# Altium integrated library Analog Devices Operational Amplifiers.IntLib: 2102 symbols (part 27 of 70)
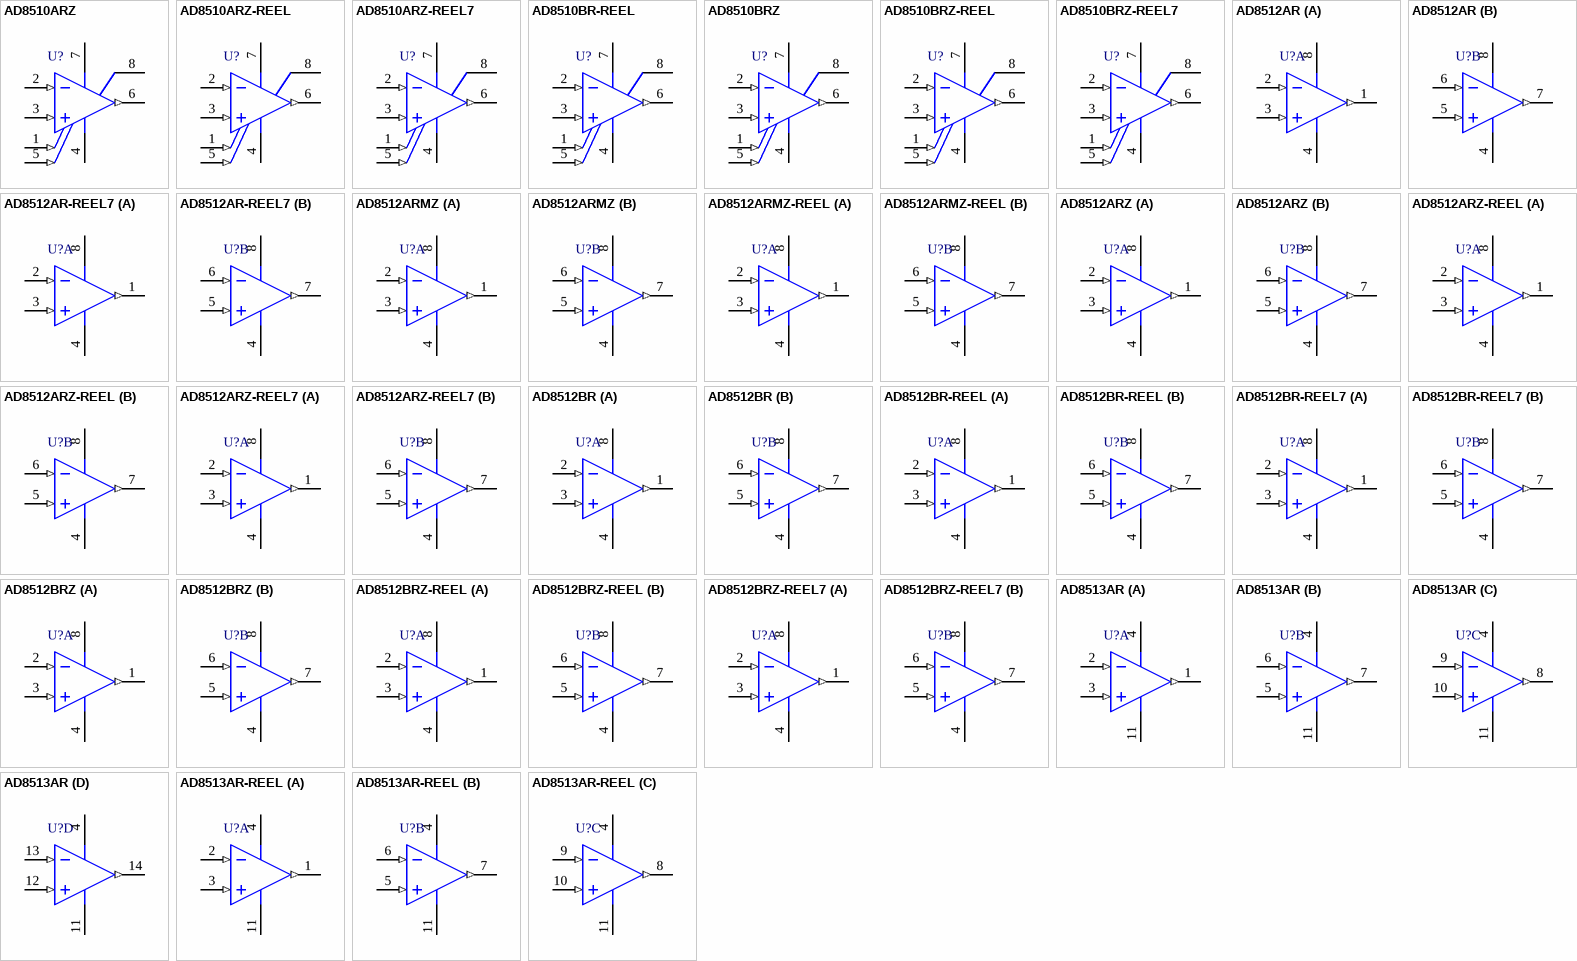
[diagram p140: symbols AD8510ARZ to AD8513AR-REEL]

## AD8512BRZ-REEL7
designator U?
Double Channel Low Offset Voltage Operational Amplifier, 8 MHz BW, 20 V/us SR, Industrial, 8-pin SOIC (R-8), Reel; Generic Part Number: AD8512; Manufacturer: Analog Devices; PartNumber: AD8512BRZ-REEL7; Amplifiers Per Package: 2; Input Bias Current: 21pA; Input Offset Voltage: 80uV; Iq/Amp: 2.5mA; Slew Rate: 20V/us; Small Signal Bandwidth: 8MHz; V Span Max: 36V; V Span Min: 9V; DatasheetVersion: Rev. I; PackageVersion: 060506-A; PackageReference: R-8; PackageDescription: 8-Pin Standard Small Outline Package, Body 3.9 x 4.9 mm, Pitch 1.27 mm; Supplier 1: Digi-Key; Supplier Part Number 1: AD8512BRZ-REEL7TR-ND; Supplier 2: Digi-Key; Supplier Part Number 2: AD8512BRZ-REEL7CT-ND; Supplier 3: Digi-Key; Supplier Part Number 3: AD8512BRZ-REEL7DKR-ND; Supplier 4: Newark; Supplier Part Number 4: 59K6779; Mounting Technology: Surface Mount; Code_JEDEC: MS-012-AA; ComponentLink1Description: Manufacturer URL; ComponentLink1URL: http://www.analog.com/en/index.html; ComponentLink2Description: Datasheet; ComponentLink2URL: http://www.analog.com/static/imported-files/data_sheets/AD8510_8512_8513.pdf; ComponentLink3Description: Package Specification; ComponentLink3URL: http://www.analog.com/static/imported-files/packages/PKG_PDF/SOIC_Narrow%20(R)/R_8.pdf; ComponentLink4Description: Reference Circuit; ComponentLink4URL: http://www.analog.com/en/all-operational-amplifiers-op-amps/operational-amplifiers-op-amps/ad8512/products/product.html#product-recommendations
footprint ADI-R-8_N (SOIC, 8-Leads, Body 4.9x3.9mm, Pitch 1.27mm, IPC Medium Density)
footprint ADI-R-8_L (SOIC, 8-Leads, Body 4.9x3.9mm, Pitch 1.27mm, IPC High Density)
footprint ADI-R-8_M (SOIC, 8-Leads, Body 4.9x3.9mm, Pitch 1.27mm, IPC Low Density)
pins on every part: 4 -V (power), 8 +V (power)
part A pins: 1 OUT A (out), 2 -IN A (in), 3 +IN A (in)
part B pins: 5 +IN B (in), 6 -IN B (in), 7 OUT B (out)

## AD8513AR
designator U?
Quad Channel Low Offset Voltage Operational Amplifier, 8 MHz BW, 20 V/us SR, Industrial, 14-pin SOIC (R-14), Tube; Generic Part Number: AD8513; Manufacturer: Analog Devices; PartNumber: AD8513AR; Amplifiers Per Package: 4; Input Bias Current: 25pA; Input Offset Voltage: 80uV; Iq/Amp: 2.5mA; Slew Rate: 20V/us; Small Signal Bandwidth: 8MHz; V Span Max: 36V; V Span Min: 9V; DatasheetVersion: Rev. I; PackageVersion: 060606-A; PackageReference: R-14; PackageDescription: 14-Pin Standard Small Outline Package, Body 8.65 x 3.9 mm, Pitch 1.27 mm; Supplier 1: Digi-Key; Supplier Part Number 1: AD8513AR-ND; Mounting Technology: Surface Mount; Code_JEDEC: MS-012-AB; ComponentLink1Description: Manufacturer URL; ComponentLink1URL: http://www.analog.com/en/index.html; ComponentLink2Description: Datasheet; ComponentLink2URL: http://www.analog.com/static/imported-files/data_sheets/AD8510_8512_8513.pdf; ComponentLink3Description: Package Specification; ComponentLink3URL: http://www.analog.com/static/imported-files/packages/PKG_PDF/SOIC_Narrow%20(R)/R_14.pdf
footprint ADI-R-14_N (SOIC, 14-Leads, Body 8.65x3.9mm, Pitch 1.27mm, IPC Medium Density)
footprint ADI-R-14_L (SOIC, 14-Leads, Body 8.65x3.9mm, Pitch 1.27mm, IPC High Density)
footprint ADI-R-14_M (SOIC, 14-Leads, Body 8.65x3.9mm, Pitch 1.27mm, IPC Low Density)
pins on every part: 4 +V (power), 11 -V (power)
part A pins: 1 OUT A (out), 2 -IN A (in), 3 +IN A (in)
part B pins: 5 +IN B (in), 6 -IN B (in), 7 OUT B (out)
part C pins: 8 OUT C (out), 9 -IN C (in), 10 +IN C (in)
part D pins: 12 +IN D (in), 13 -IN D (in), 14 OUT D (out)

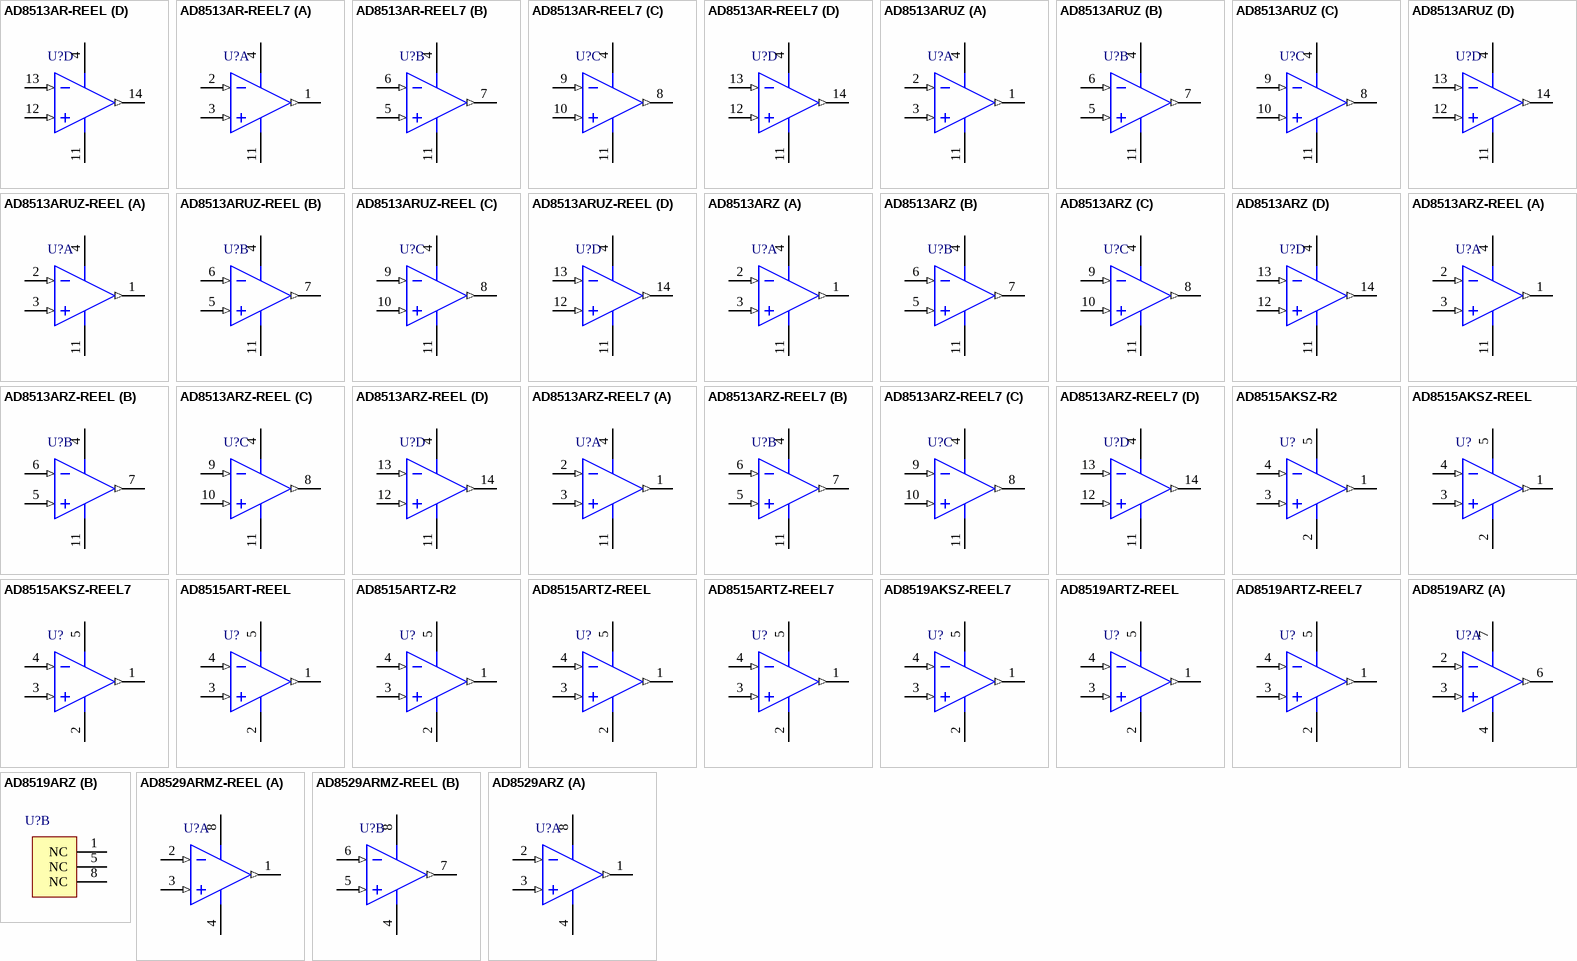
[diagram p39: symbols AD8513AR-REEL to AD8529ARZ]

## AD8513AR-REEL
designator U?
Quad Channel Low Offset Voltage Operational Amplifier, 8 MHz BW, 20 V/us SR, Industrial, 14-pin SOIC (R-14), Reel; Generic Part Number: AD8513; Manufacturer: Analog Devices; PartNumber: AD8513AR-REEL; Amplifiers Per Package: 4; Input Bias Current: 25pA; Input Offset Voltage: 80uV; Iq/Amp: 2.5mA; Slew Rate: 20V/us; Small Signal Bandwidth: 8MHz; V Span Max: 36V; V Span Min: 9V; DatasheetVersion: Rev. I; PackageVersion: 060606-A; PackageReference: R-14; PackageDescription: 14-Pin Standard Small Outline Package, Body 8.65 x 3.9 mm, Pitch 1.27 mm; Supplier 1: Digi-Key; Supplier Part Number 1: AD8513AR-REEL-ND; Supplier 2: Newark; Supplier Part Number 2: 88H0252; Mounting Technology: Surface Mount; Code_JEDEC: MS-012-AB; ComponentLink1Description: Manufacturer URL; ComponentLink1URL: http://www.analog.com/en/index.html; ComponentLink2Description: Datasheet; ComponentLink2URL: http://www.analog.com/static/imported-files/data_sheets/AD8510_8512_8513.pdf; ComponentLink3Description: Package Specification; ComponentLink3URL: http://www.analog.com/static/imported-files/packages/PKG_PDF/SOIC_Narrow%20(R)/R_14.pdf
footprint ADI-R-14_N (SOIC, 14-Leads, Body 8.65x3.9mm, Pitch 1.27mm, IPC Medium Density)
footprint ADI-R-14_L (SOIC, 14-Leads, Body 8.65x3.9mm, Pitch 1.27mm, IPC High Density)
footprint ADI-R-14_M (SOIC, 14-Leads, Body 8.65x3.9mm, Pitch 1.27mm, IPC Low Density)
pins on every part: 4 +V (power), 11 -V (power)
part A pins: 1 OUT A (out), 2 -IN A (in), 3 +IN A (in)
part B pins: 5 +IN B (in), 6 -IN B (in), 7 OUT B (out)
part C pins: 8 OUT C (out), 9 -IN C (in), 10 +IN C (in)
part D pins: 12 +IN D (in), 13 -IN D (in), 14 OUT D (out)

## AD8513AR-REEL7
designator U?
Quad Channel Low Offset Voltage Operational Amplifier, 8 MHz BW, 20 V/us SR, Industrial, 14-pin SOIC (R-14), Reel; Generic Part Number: AD8513; Manufacturer: Analog Devices; PartNumber: AD8513AR-REEL7; Amplifiers Per Package: 4; Input Bias Current: 25pA; Input Offset Voltage: 80uV; Iq/Amp: 2.5mA; Slew Rate: 20V/us; Small Signal Bandwidth: 8MHz; V Span Max: 36V; V Span Min: 9V; DatasheetVersion: Rev. I; PackageVersion: 060606-A; PackageReference: R-14; PackageDescription: 14-Pin Standard Small Outline Package, Body 8.65 x 3.9 mm, Pitch 1.27 mm; Supplier 1: Digi-Key; Supplier Part Number 1: AD8513AR-REEL7-ND; Supplier 2: Newark; Supplier Part Number 2: 88H0253; Mounting Technology: Surface Mount; Code_JEDEC: MS-012-AB; ComponentLink1Description: Manufacturer URL; ComponentLink1URL: http://www.analog.com/en/index.html; ComponentLink2Description: Datasheet; ComponentLink2URL: http://www.analog.com/static/imported-files/data_sheets/AD8510_8512_8513.pdf; ComponentLink3Description: Package Specification; ComponentLink3URL: http://www.analog.com/static/imported-files/packages/PKG_PDF/SOIC_Narrow%20(R)/R_14.pdf
footprint ADI-R-14_N (SOIC, 14-Leads, Body 8.65x3.9mm, Pitch 1.27mm, IPC Medium Density)
footprint ADI-R-14_L (SOIC, 14-Leads, Body 8.65x3.9mm, Pitch 1.27mm, IPC High Density)
footprint ADI-R-14_M (SOIC, 14-Leads, Body 8.65x3.9mm, Pitch 1.27mm, IPC Low Density)
pins on every part: 4 +V (power), 11 -V (power)
part A pins: 1 OUT A (out), 2 -IN A (in), 3 +IN A (in)
part B pins: 5 +IN B (in), 6 -IN B (in), 7 OUT B (out)
part C pins: 8 OUT C (out), 9 -IN C (in), 10 +IN C (in)
part D pins: 12 +IN D (in), 13 -IN D (in), 14 OUT D (out)

## AD8513ARUZ
designator U?
Quad Channel Low Offset Voltage Operational Amplifier, 8 MHz BW, 20 V/us SR, Industrial, 14-pin SOP (RU-14), Tube; Generic Part Number: AD8513; Manufacturer: Analog Devices; PartNumber: AD8513ARUZ; Amplifiers Per Package: 4; Input Bias Current: 25pA; Input Offset Voltage: 80uV; Iq/Amp: 2.5mA; Slew Rate: 20V/us; Small Signal Bandwidth: 8MHz; V Span Max: 36V; V Span Min: 9V; DatasheetVersion: Rev. I; PackageReference: RU-14; PackageDescription: 14-Pin Thin Shrink Small Outline Package, Body 5 x 4.4 mm, Pitch 0.65 mm; Supplier 1: Digi-Key; Supplier Part Number 1: AD8513ARUZ-ND; Supplier 2: Farnell; Supplier Part Number 2: 2192247; Supplier 3: Newark; Supplier Part Number 3: 59K6780; Mounting Technology: Surface Mount; Code_JEDEC: MO-153AB-1; ComponentLink1Description: Manufacturer URL; ComponentLink1URL: http://www.analog.com/en/index.html; ComponentLink2Description: Datasheet; ComponentLink2URL: http://www.analog.com/static/imported-files/data_sheets/AD8510_8512_8513.pdf; ComponentLink3Description: Package Specification; ComponentLink3URL: http://www.analog.com/static/imported-files/packages/36057385283879153717235186773RU14.pdf
footprint ADI-RU-14_N (SOP, 14-Leads, Body 5x4.4mm, Pitch 0.65mm, IPC Medium Density)
footprint ADI-RU-14_L (SOP, 14-Leads, Body 5x4.4mm, Pitch 0.65mm, IPC High Density)
footprint ADI-RU-14_M (SOP, 14-Leads, Body 5x4.4mm, Pitch 0.65mm, IPC Low Density)
pins on every part: 4 +V (power), 11 -V (power)
part A pins: 1 OUT A (out), 2 -IN A (in), 3 +IN A (in)
part B pins: 5 +IN B (in), 6 -IN B (in), 7 OUT B (out)
part C pins: 8 OUT C (out), 9 -IN C (in), 10 +IN C (in)
part D pins: 12 +IN D (in), 13 -IN D (in), 14 OUT D (out)

## AD8513ARUZ-REEL
designator U?
Quad Channel Low Offset Voltage Operational Amplifier, 8 MHz BW, 20 V/us SR, Industrial, 14-pin SOP (RU-14), Reel; Generic Part Number: AD8513; Manufacturer: Analog Devices; PartNumber: AD8513ARUZ-REEL; Amplifiers Per Package: 4; Input Bias Current: 25pA; Input Offset Voltage: 80uV; Iq/Amp: 2.5mA; Slew Rate: 20V/us; Small Signal Bandwidth: 8MHz; V Span Max: 36V; V Span Min: 9V; DatasheetVersion: Rev. I; PackageReference: RU-14; PackageDescription: 14-Pin Thin Shrink Small Outline Package, Body 5 x 4.4 mm, Pitch 0.65 mm; Supplier 1: Digi-Key; Supplier Part Number 1: AD8513ARUZ-REEL-ND; Mounting Technology: Surface Mount; Code_JEDEC: MO-153AB-1; ComponentLink1Description: Manufacturer URL; ComponentLink1URL: http://www.analog.com/en/index.html; ComponentLink2Description: Datasheet; ComponentLink2URL: http://www.analog.com/static/imported-files/data_sheets/AD8510_8512_8513.pdf; ComponentLink3Description: Package Specification; ComponentLink3URL: http://www.analog.com/static/imported-files/packages/36057385283879153717235186773RU14.pdf
footprint ADI-RU-14_N (SOP, 14-Leads, Body 5x4.4mm, Pitch 0.65mm, IPC Medium Density)
footprint ADI-RU-14_L (SOP, 14-Leads, Body 5x4.4mm, Pitch 0.65mm, IPC High Density)
footprint ADI-RU-14_M (SOP, 14-Leads, Body 5x4.4mm, Pitch 0.65mm, IPC Low Density)
pins on every part: 4 +V (power), 11 -V (power)
part A pins: 1 OUT A (out), 2 -IN A (in), 3 +IN A (in)
part B pins: 5 +IN B (in), 6 -IN B (in), 7 OUT B (out)
part C pins: 8 OUT C (out), 9 -IN C (in), 10 +IN C (in)
part D pins: 12 +IN D (in), 13 -IN D (in), 14 OUT D (out)

## AD8513ARZ
designator U?
Quad Channel Low Offset Voltage Operational Amplifier, 8 MHz BW, 20 V/us SR, Industrial, 14-pin SOIC (R-14), Tube; Generic Part Number: AD8513; Manufacturer: Analog Devices; PartNumber: AD8513ARZ; Amplifiers Per Package: 4; Input Bias Current: 25pA; Input Offset Voltage: 80uV; Iq/Amp: 2.5mA; Slew Rate: 20V/us; Small Signal Bandwidth: 8MHz; V Span Max: 36V; V Span Min: 9V; DatasheetVersion: Rev. I; PackageVersion: 060606-A; PackageReference: R-14; PackageDescription: 14-Pin Standard Small Outline Package, Body 8.65 x 3.9 mm, Pitch 1.27 mm; Supplier 1: Digi-Key; Supplier Part Number 1: AD8513ARZ-ND; Supplier 2: Farnell; Supplier Part Number 2: 8397970; Supplier 3: Newark; Supplier Part Number 3: 19M0959; Mounting Technology: Surface Mount; Code_JEDEC: MS-012-AB; ComponentLink1Description: Manufacturer URL; ComponentLink1URL: http://www.analog.com/en/index.html; ComponentLink2Description: Datasheet; ComponentLink2URL: http://www.analog.com/static/imported-files/data_sheets/AD8510_8512_8513.pdf; ComponentLink3Description: Package Specification; ComponentLink3URL: http://www.analog.com/static/imported-files/packages/PKG_PDF/SOIC_Narrow%20(R)/R_14.pdf
footprint ADI-R-14_N (SOIC, 14-Leads, Body 8.65x3.9mm, Pitch 1.27mm, IPC Medium Density)
footprint ADI-R-14_L (SOIC, 14-Leads, Body 8.65x3.9mm, Pitch 1.27mm, IPC High Density)
footprint ADI-R-14_M (SOIC, 14-Leads, Body 8.65x3.9mm, Pitch 1.27mm, IPC Low Density)
pins on every part: 4 +V (power), 11 -V (power)
part A pins: 1 OUT A (out), 2 -IN A (in), 3 +IN A (in)
part B pins: 5 +IN B (in), 6 -IN B (in), 7 OUT B (out)
part C pins: 8 OUT C (out), 9 -IN C (in), 10 +IN C (in)
part D pins: 12 +IN D (in), 13 -IN D (in), 14 OUT D (out)

## AD8513ARZ-REEL
designator U?
Quad Channel Low Offset Voltage Operational Amplifier, 8 MHz BW, 20 V/us SR, Industrial, 14-pin SOIC (R-14), Reel; Generic Part Number: AD8513; Manufacturer: Analog Devices; PartNumber: AD8513ARZ-REEL; Amplifiers Per Package: 4; Input Bias Current: 25pA; Input Offset Voltage: 80uV; Iq/Amp: 2.5mA; Slew Rate: 20V/us; Small Signal Bandwidth: 8MHz; V Span Max: 36V; V Span Min: 9V; DatasheetVersion: Rev. I; PackageVersion: 060606-A; PackageReference: R-14; PackageDescription: 14-Pin Standard Small Outline Package, Body 8.65 x 3.9 mm, Pitch 1.27 mm; Supplier 1: Digi-Key; Supplier Part Number 1: AD8513ARZ-REEL-ND; Supplier 2: Newark; Supplier Part Number 2: 59K6783; Mounting Technology: Surface Mount; Code_JEDEC: MS-012-AB; ComponentLink1Description: Manufacturer URL; ComponentLink1URL: http://www.analog.com/en/index.html; ComponentLink2Description: Datasheet; ComponentLink2URL: http://www.analog.com/static/imported-files/data_sheets/AD8510_8512_8513.pdf; ComponentLink3Description: Package Specification; ComponentLink3URL: http://www.analog.com/static/imported-files/packages/PKG_PDF/SOIC_Narrow%20(R)/R_14.pdf
footprint ADI-R-14_N (SOIC, 14-Leads, Body 8.65x3.9mm, Pitch 1.27mm, IPC Medium Density)
footprint ADI-R-14_L (SOIC, 14-Leads, Body 8.65x3.9mm, Pitch 1.27mm, IPC High Density)
footprint ADI-R-14_M (SOIC, 14-Leads, Body 8.65x3.9mm, Pitch 1.27mm, IPC Low Density)
pins on every part: 4 +V (power), 11 -V (power)
part A pins: 1 OUT A (out), 2 -IN A (in), 3 +IN A (in)
part B pins: 5 +IN B (in), 6 -IN B (in), 7 OUT B (out)
part C pins: 8 OUT C (out), 9 -IN C (in), 10 +IN C (in)
part D pins: 12 +IN D (in), 13 -IN D (in), 14 OUT D (out)

## AD8513ARZ-REEL7
designator U?
Quad Channel Low Offset Voltage Operational Amplifier, 8 MHz BW, 20 V/us SR, Industrial, 14-pin SOIC (R-14), Reel; Generic Part Number: AD8513; Manufacturer: Analog Devices; PartNumber: AD8513ARZ-REEL7; Amplifiers Per Package: 4; Input Bias Current: 25pA; Input Offset Voltage: 80uV; Iq/Amp: 2.5mA; Slew Rate: 20V/us; Small Signal Bandwidth: 8MHz; V Span Max: 36V; V Span Min: 9V; DatasheetVersion: Rev. I; PackageVersion: 060606-A; PackageReference: R-14; PackageDescription: 14-Pin Standard Small Outline Package, Body 8.65 x 3.9 mm, Pitch 1.27 mm; Supplier 1: Digi-Key; Supplier Part Number 1: AD8513ARZ-REEL7TR-ND; Supplier 2: Digi-Key; Supplier Part Number 2: AD8513ARZ-REEL7CT-ND; Supplier 3: Digi-Key; Supplier Part Number 3: AD8513ARZ-REEL7DKR-ND; Supplier 4: Newark; Supplier Part Number 4: 59K6784; Mounting Technology: Surface Mount; Code_JEDEC: MS-012-AB; ComponentLink1Description: Manufacturer URL; ComponentLink1URL: http://www.analog.com/en/index.html; ComponentLink2Description: Datasheet; ComponentLink2URL: http://www.analog.com/static/imported-files/data_sheets/AD8510_8512_8513.pdf; ComponentLink3Description: Package Specification; ComponentLink3URL: http://www.analog.com/static/imported-files/packages/PKG_PDF/SOIC_Narrow%20(R)/R_14.pdf
footprint ADI-R-14_N (SOIC, 14-Leads, Body 8.65x3.9mm, Pitch 1.27mm, IPC Medium Density)
footprint ADI-R-14_L (SOIC, 14-Leads, Body 8.65x3.9mm, Pitch 1.27mm, IPC High Density)
footprint ADI-R-14_M (SOIC, 14-Leads, Body 8.65x3.9mm, Pitch 1.27mm, IPC Low Density)
pins on every part: 4 +V (power), 11 -V (power)
part A pins: 1 OUT A (out), 2 -IN A (in), 3 +IN A (in)
part B pins: 5 +IN B (in), 6 -IN B (in), 7 OUT B (out)
part C pins: 8 OUT C (out), 9 -IN C (in), 10 +IN C (in)
part D pins: 12 +IN D (in), 13 -IN D (in), 14 OUT D (out)

## AD8515AKSZ-R2
designator U?
Single Channel RRIO Operational Amplifier, 5 MHz BW, 2.7 V/us SR, Industrial, 5-pin SOT23 (KS-5), Reel; Generic Part Number: AD8515; Manufacturer: Analog Devices; PartNumber: AD8515AKSZ-R2; Amplifiers Per Package: 1; Input Bias Current: 2pA; Input Offset Voltage: 1mV; Iq/Amp: 500uA; Small Signal Bandwidth: 5MHz; V Span Max: 6V; V Span Min: 1.8V; DatasheetVersion: Rev. D; PackageVersion: 072809-A; PackageReference: KS-5; PackageDescription: 5-Pin Thin Shrink Small Outline Transistor Package, Body 2 x 1.25 mm, Pitch 0.65 mm; Supplier 1: Digi-Key; Supplier Part Number 1: AD8515AKSZ-R2TR-ND; Supplier 2: Digi-Key; Supplier Part Number 2: AD8515AKSZ-R2CT-ND; Supplier 3: Digi-Key; Supplier Part Number 3: AD8515AKSZ-R2DKR-ND; Supplier 4: Farnell; Supplier Part Number 4: 2074883; Supplier 5: Newark; Supplier Part Number 5: 59K6787; Slew Rate: 2.7V/us; Mounting Technology: Surface Mount; Code_JEDEC: MO-203-AA; ComponentLink1Description: Manufacturer URL; ComponentLink1URL: http://www.analog.com/en/index.html; ComponentLink2Description: Datasheet; ComponentLink2URL: http://www.analog.com/static/imported-files/data_sheets/AD8515.pdf; ComponentLink3Description: Package Specification; ComponentLink3URL: http://www.analog.com/static/imported-files/packages/PKG_PDF/SC70(KS)/KS_5.pdf; ComponentLink4Description: Reference Circuit; ComponentLink4URL: http://www.analog.com/en/all-operational-amplifiers-op-amps/operational-amplifiers-op-amps/ad8515/products/product.html#product-recommendations
footprint ADI-KS-5_N (SOT23, 5-Leads, Body 2x1.25mm, Pitch 0.65mm, IPC Medium Density)
footprint ADI-KS-5_L (SOT23, 5-Leads, Body 2x1.25mm, Pitch 0.65mm, IPC High Density)
footprint ADI-KS-5_M (SOT23, 5-Leads, Body 2x1.25mm, Pitch 0.65mm, IPC Low Density)
pins: 1 OUT (out), 2 -V (power), 3 +IN (in), 4 -IN (in), 5 +V (power)

## AD8515AKSZ-REEL
designator U?
Single Channel RRIO Operational Amplifier, 5 MHz BW, 2.7 V/us SR, Industrial, 5-pin SOT23 (KS-5), Reel; Generic Part Number: AD8515; Manufacturer: Analog Devices; PartNumber: AD8515AKSZ-REEL; Amplifiers Per Package: 1; Input Bias Current: 2pA; Input Offset Voltage: 1mV; Iq/Amp: 500uA; Small Signal Bandwidth: 5MHz; V Span Max: 6V; V Span Min: 1.8V; DatasheetVersion: Rev. D; PackageVersion: 072809-A; PackageReference: KS-5; PackageDescription: 5-Pin Thin Shrink Small Outline Transistor Package, Body 2 x 1.25 mm, Pitch 0.65 mm; Supplier 1: Digi-Key; Supplier Part Number 1: AD8515AKSZ-REEL-ND; Supplier 2: Newark; Supplier Part Number 2: 59K6785; Slew Rate: 2.7V/us; Mounting Technology: Surface Mount; Code_JEDEC: MO-203-AA; ComponentLink1Description: Manufacturer URL; ComponentLink1URL: http://www.analog.com/en/index.html; ComponentLink2Description: Datasheet; ComponentLink2URL: http://www.analog.com/static/imported-files/data_sheets/AD8515.pdf; ComponentLink3Description: Package Specification; ComponentLink3URL: http://www.analog.com/static/imported-files/packages/PKG_PDF/SC70(KS)/KS_5.pdf; ComponentLink4Description: Reference Circuit; ComponentLink4URL: http://www.analog.com/en/all-operational-amplifiers-op-amps/operational-amplifiers-op-amps/ad8515/products/product.html#product-recommendations
footprint ADI-KS-5_N (SOT23, 5-Leads, Body 2x1.25mm, Pitch 0.65mm, IPC Medium Density)
footprint ADI-KS-5_L (SOT23, 5-Leads, Body 2x1.25mm, Pitch 0.65mm, IPC High Density)
footprint ADI-KS-5_M (SOT23, 5-Leads, Body 2x1.25mm, Pitch 0.65mm, IPC Low Density)
pins: 1 OUT (out), 2 -V (power), 3 +IN (in), 4 -IN (in), 5 +V (power)

## AD8515AKSZ-REEL7
designator U?
Single Channel RRIO Operational Amplifier, 5 MHz BW, 2.7 V/us SR, Industrial, 5-pin SOT23 (KS-5), Reel; Generic Part Number: AD8515; Manufacturer: Analog Devices; PartNumber: AD8515AKSZ-REEL7; Amplifiers Per Package: 1; Input Bias Current: 2pA; Input Offset Voltage: 1mV; Iq/Amp: 500uA; Small Signal Bandwidth: 5MHz; V Span Max: 6V; V Span Min: 1.8V; DatasheetVersion: Rev. D; PackageVersion: 072809-A; PackageReference: KS-5; PackageDescription: 5-Pin Thin Shrink Small Outline Transistor Package, Body 2 x 1.25 mm, Pitch 0.65 mm; Supplier 1: Digi-Key; Supplier Part Number 1: AD8515AKSZ-REEL7TR-ND; Supplier 2: Digi-Key; Supplier Part Number 2: AD8515AKSZ-REEL7CT-ND; Supplier 3: Digi-Key; Supplier Part Number 3: AD8515AKSZ-REEL7DKR-ND; Supplier 4: Newark; Supplier Part Number 4: 59K6786; Slew Rate: 2.7V/us; Mounting Technology: Surface Mount; Code_JEDEC: MO-203-AA; ComponentLink1Description: Manufacturer URL; ComponentLink1URL: http://www.analog.com/en/index.html; ComponentLink2Description: Datasheet; ComponentLink2URL: http://www.analog.com/static/imported-files/data_sheets/AD8515.pdf; ComponentLink3Description: Package Specification; ComponentLink3URL: http://www.analog.com/static/imported-files/packages/PKG_PDF/SC70(KS)/KS_5.pdf; ComponentLink4Description: Reference Circuit; ComponentLink4URL: http://www.analog.com/en/all-operational-amplifiers-op-amps/operational-amplifiers-op-amps/ad8515/products/product.html#product-recommendations
footprint ADI-KS-5_N (SOT23, 5-Leads, Body 2x1.25mm, Pitch 0.65mm, IPC Medium Density)
footprint ADI-KS-5_L (SOT23, 5-Leads, Body 2x1.25mm, Pitch 0.65mm, IPC High Density)
footprint ADI-KS-5_M (SOT23, 5-Leads, Body 2x1.25mm, Pitch 0.65mm, IPC Low Density)
pins: 1 OUT (out), 2 -V (power), 3 +IN (in), 4 -IN (in), 5 +V (power)

## AD8515ART-REEL
designator U?
Single Channel RRIO Operational Amplifier, 5 MHz BW, 2.7 V/us SR, Industrial, 5-pin SOT23 (RJ-5), Reel; Generic Part Number: AD8515; Manufacturer: Analog Devices; PartNumber: AD8515ART-REEL; Amplifiers Per Package: 1; Input Bias Current: 2pA; Input Offset Voltage: 1mV; Iq/Amp: 500uA; Small Signal Bandwidth: 5MHz; V Span Max: 6V; V Span Min: 1.8V; DatasheetVersion: Rev. D; PackageVersion: 121608-A; PackageReference: RJ-5; PackageDescription: 5-Pin Small Outline Transistor Package, Body 2.9 x 1.6 mm, Pitch 0.95 mm; Supplier 1: Digi-Key; Supplier Part Number 1: AD8515ART-REEL-ND; Slew Rate: 2.7V/us; Mounting Technology: Surface Mount; Code_JEDEC: MO-178-AA; ComponentLink1Description: Manufacturer URL; ComponentLink1URL: http://www.analog.com/en/index.html; ComponentLink2Description: Datasheet; ComponentLink2URL: http://www.analog.com/static/imported-files/data_sheets/AD8515.pdf; ComponentLink3Description: Package Specification; ComponentLink3URL: http://www.analog.com/static/imported-files/packages/PKG_PDF/SOT-23(RJ)/RJ_5.pdf; ComponentLink4Description: Reference Circuit; ComponentLink4URL: http://www.analog.com/en/all-operational-amplifiers-op-amps/operational-amplifiers-op-amps/ad8515/products/product.html#product-recommendations
footprint ADI-RJ-5_N (SOT-23, 5-Leads, Body 2.9x1.6mm, Pitch 0.95mm, IPC Medium Density)
footprint ADI-RJ-5_L (SOT-23, 5-Leads, Body 2.9x1.6mm, Pitch 0.95mm, IPC High Density)
footprint ADI-RJ-5_M (SOT-23, 5-Leads, Body 2.9x1.6mm, Pitch 0.95mm, IPC Low Density)
pins: 1 OUT (out), 2 -V (power), 3 +IN (in), 4 -IN (in), 5 +V (power)

## AD8515ARTZ-R2
designator U?
Single Channel RRIO Operational Amplifier, 5 MHz BW, 2.7 V/us SR, Industrial, 5-pin SOT23 (RJ-5), Reel; Generic Part Number: AD8515; Manufacturer: Analog Devices; PartNumber: AD8515ARTZ-R2; Amplifiers Per Package: 1; Input Bias Current: 2pA; Input Offset Voltage: 1mV; Iq/Amp: 500uA; Small Signal Bandwidth: 5MHz; V Span Max: 6V; V Span Min: 1.8V; DatasheetVersion: Rev. D; PackageVersion: 121608-A; PackageReference: RJ-5; PackageDescription: 5-Pin Small Outline Transistor Package, Body 2.9 x 1.6 mm, Pitch 0.95 mm; Supplier 1: Digi-Key; Supplier Part Number 1: AD8515ARTZ-R2TR-ND; Supplier 2: Digi-Key; Supplier Part Number 2: AD8515ARTZ-R2CT-ND; Supplier 3: Digi-Key; Supplier Part Number 3: AD8515ARTZ-R2DKR-ND; Supplier 4: Farnell; Supplier Part Number 4: 1319454; Supplier 5: Newark; Supplier Part Number 5: 19M8910; Slew Rate: 2.7V/us; Mounting Technology: Surface Mount; Code_JEDEC: MO-178-AA; ComponentLink1Description: Manufacturer URL; ComponentLink1URL: http://www.analog.com/en/index.html; ComponentLink2Description: Datasheet; ComponentLink2URL: http://www.analog.com/static/imported-files/data_sheets/AD8515.pdf; ComponentLink3Description: Package Specification; ComponentLink3URL: http://www.analog.com/static/imported-files/packages/PKG_PDF/SOT-23(RJ)/RJ_5.pdf; ComponentLink4Description: Reference Circuit; ComponentLink4URL: http://www.analog.com/en/all-operational-amplifiers-op-amps/operational-amplifiers-op-amps/ad8515/products/product.html#product-recommendations
footprint ADI-RJ-5_N (SOT-23, 5-Leads, Body 2.9x1.6mm, Pitch 0.95mm, IPC Medium Density)
footprint ADI-RJ-5_L (SOT-23, 5-Leads, Body 2.9x1.6mm, Pitch 0.95mm, IPC High Density)
footprint ADI-RJ-5_M (SOT-23, 5-Leads, Body 2.9x1.6mm, Pitch 0.95mm, IPC Low Density)
pins: 1 OUT (out), 2 -V (power), 3 +IN (in), 4 -IN (in), 5 +V (power)

## AD8515ARTZ-REEL
designator U?
Single Channel RRIO Operational Amplifier, 5 MHz BW, 2.7 V/us SR, Industrial, 5-pin SOT23 (RJ-5), Reel; Generic Part Number: AD8515; Manufacturer: Analog Devices; PartNumber: AD8515ARTZ-REEL; Amplifiers Per Package: 1; Input Bias Current: 2pA; Input Offset Voltage: 1mV; Iq/Amp: 500uA; Small Signal Bandwidth: 5MHz; V Span Max: 6V; V Span Min: 1.8V; DatasheetVersion: Rev. D; PackageVersion: 121608-A; PackageReference: RJ-5; PackageDescription: 5-Pin Small Outline Transistor Package, Body 2.9 x 1.6 mm, Pitch 0.95 mm; Supplier 1: Digi-Key; Supplier Part Number 1: AD8515ARTZ-REEL-ND; Slew Rate: 2.7V/us; Mounting Technology: Surface Mount; Code_JEDEC: MO-178-AA; ComponentLink1Description: Manufacturer URL; ComponentLink1URL: http://www.analog.com/en/index.html; ComponentLink2Description: Datasheet; ComponentLink2URL: http://www.analog.com/static/imported-files/data_sheets/AD8515.pdf; ComponentLink3Description: Package Specification; ComponentLink3URL: http://www.analog.com/static/imported-files/packages/PKG_PDF/SOT-23(RJ)/RJ_5.pdf; ComponentLink4Description: Reference Circuit; ComponentLink4URL: http://www.analog.com/en/all-operational-amplifiers-op-amps/operational-amplifiers-op-amps/ad8515/products/product.html#product-recommendations
footprint ADI-RJ-5_N (SOT-23, 5-Leads, Body 2.9x1.6mm, Pitch 0.95mm, IPC Medium Density)
footprint ADI-RJ-5_L (SOT-23, 5-Leads, Body 2.9x1.6mm, Pitch 0.95mm, IPC High Density)
footprint ADI-RJ-5_M (SOT-23, 5-Leads, Body 2.9x1.6mm, Pitch 0.95mm, IPC Low Density)
pins: 1 OUT (out), 2 -V (power), 3 +IN (in), 4 -IN (in), 5 +V (power)

## AD8515ARTZ-REEL7
designator U?
Single Channel RRIO Operational Amplifier, 5 MHz BW, 2.7 V/us SR, Industrial, 5-pin SOT23 (RJ-5), Reel; Generic Part Number: AD8515; Manufacturer: Analog Devices; PartNumber: AD8515ARTZ-REEL7; Amplifiers Per Package: 1; Input Bias Current: 2pA; Input Offset Voltage: 1mV; Iq/Amp: 500uA; Small Signal Bandwidth: 5MHz; V Span Max: 6V; V Span Min: 1.8V; DatasheetVersion: Rev. D; PackageVersion: 121608-A; PackageReference: RJ-5; PackageDescription: 5-Pin Small Outline Transistor Package, Body 2.9 x 1.6 mm, Pitch 0.95 mm; Supplier 1: Digi-Key; Supplier Part Number 1: AD8515ARTZREEL7TR-ND; Supplier 2: Digi-Key; Supplier Part Number 2: AD8515ARTZREEL7CT-ND; Supplier 3: Digi-Key; Supplier Part Number 3: AD8515ARTZREEL7DKR-ND; Supplier 4: Newark; Supplier Part Number 4: 59K6789; Slew Rate: 2.7V/us; Mounting Technology: Surface Mount; Code_JEDEC: MO-178-AA; ComponentLink1Description: Manufacturer URL; ComponentLink1URL: http://www.analog.com/en/index.html; ComponentLink2Description: Datasheet; ComponentLink2URL: http://www.analog.com/static/imported-files/data_sheets/AD8515.pdf; ComponentLink3Description: Package Specification; ComponentLink3URL: http://www.analog.com/static/imported-files/packages/PKG_PDF/SOT-23(RJ)/RJ_5.pdf; ComponentLink4Description: Reference Circuit; ComponentLink4URL: http://www.analog.com/en/all-operational-amplifiers-op-amps/operational-amplifiers-op-amps/ad8515/products/product.html#product-recommendations
footprint ADI-RJ-5_N (SOT-23, 5-Leads, Body 2.9x1.6mm, Pitch 0.95mm, IPC Medium Density)
footprint ADI-RJ-5_L (SOT-23, 5-Leads, Body 2.9x1.6mm, Pitch 0.95mm, IPC High Density)
footprint ADI-RJ-5_M (SOT-23, 5-Leads, Body 2.9x1.6mm, Pitch 0.95mm, IPC Low Density)
pins: 1 OUT (out), 2 -V (power), 3 +IN (in), 4 -IN (in), 5 +V (power)

## AD8519AKSZ-REEL7
designator U?
Single Channel Wide Bandwidth Operational Amplifier, 8 MHz BW, 2.9 V/us SR, Industrial, 5-pin SOT23 (KS-5), Reel; Generic Part Number: AD8519; Manufacturer: Analog Devices; PartNumber: AD8519AKSZ-REEL7; Amplifiers Per Package: 1; Input Bias Current: 300nA; Input Offset Voltage: 600uV; Iq/Amp: 1.2mA; Small Signal Bandwidth: 8MHz; V Span Max: 12V; V Span Min: 2.7V; DatasheetVersion: Rev. D; PackageVersion: 072809-A; PackageReference: KS-5; PackageDescription: 5-Pin Thin Shrink Small Outline Transistor Package, Body 2 x 1.25 mm, Pitch 0.65 mm; Supplier 1: Digi-Key; Supplier Part Number 1: AD8519AKSZ-REEL7TR-ND; Supplier 2: Digi-Key; Supplier Part Number 2: AD8519AKSZ-REEL7CT-ND; Supplier 3: Digi-Key; Supplier Part Number 3: AD8519AKSZ-REEL7DKR-ND; Supplier 4: Newark; Supplier Part Number 4: 67W2752; Supplier 5: Newark; Supplier Part Number 5: 59K6792; Slew Rate: 2.9V/us; Mounting Technology: Surface Mount; Code_JEDEC: MO-203-AA; ComponentLink1Description: Manufacturer URL; ComponentLink1URL: http://www.analog.com/en/index.html; ComponentLink2Description: Datasheet; ComponentLink2URL: http://www.analog.com/static/imported-files/data_sheets/AD8519_8529.pdf; ComponentLink3Description: Package Specification; ComponentLink3URL: http://www.analog.com/static/imported-files/packages/PKG_PDF/SC70(KS)/KS_5.pdf
footprint ADI-KS-5_N (SOT23, 5-Leads, Body 2x1.25mm, Pitch 0.65mm, IPC Medium Density)
footprint ADI-KS-5_L (SOT23, 5-Leads, Body 2x1.25mm, Pitch 0.65mm, IPC High Density)
footprint ADI-KS-5_M (SOT23, 5-Leads, Body 2x1.25mm, Pitch 0.65mm, IPC Low Density)
pins: 1 OUT A (out), 2 -V (power), 3 +IN A (in), 4 -IN A (in), 5 +V (power)

## AD8519ARTZ-REEL
designator U?
Single Channel Wide Bandwidth Operational Amplifier, 8 MHz BW, 2.9 V/us SR, Industrial, 5-pin SOT23 (RJ-5), Reel; Generic Part Number: AD8519; Manufacturer: Analog Devices; PartNumber: AD8519ARTZ-REEL; Amplifiers Per Package: 1; Input Bias Current: 300nA; Input Offset Voltage: 600uV; Iq/Amp: 1.2mA; Small Signal Bandwidth: 8MHz; V Span Max: 12V; V Span Min: 2.7V; DatasheetVersion: Rev. D; PackageVersion: 121608-A; PackageReference: RJ-5; PackageDescription: 5-Pin Small Outline Transistor Package, Body 2.9 x 1.6 mm, Pitch 0.95 mm; Supplier 1: Digi-Key; Supplier Part Number 1: AD8519ARTZ-REEL-ND; Supplier 2: Newark; Supplier Part Number 2: 59K6793; Slew Rate: 2.9V/us; Mounting Technology: Surface Mount; Code_JEDEC: MO-178-AA; ComponentLink1Description: Manufacturer URL; ComponentLink1URL: http://www.analog.com/en/index.html; ComponentLink2Description: Datasheet; ComponentLink2URL: http://www.analog.com/static/imported-files/data_sheets/AD8519_8529.pdf; ComponentLink3Description: Package Specification; ComponentLink3URL: http://www.analog.com/static/imported-files/packages/PKG_PDF/SOT-23(RJ)/RJ_5.pdf
footprint ADI-RJ-5_N (SOT-23, 5-Leads, Body 2.9x1.6mm, Pitch 0.95mm, IPC Medium Density)
footprint ADI-RJ-5_L (SOT-23, 5-Leads, Body 2.9x1.6mm, Pitch 0.95mm, IPC High Density)
footprint ADI-RJ-5_M (SOT-23, 5-Leads, Body 2.9x1.6mm, Pitch 0.95mm, IPC Low Density)
pins: 1 OUT A (out), 2 -V (power), 3 +IN A (in), 4 -IN A (in), 5 +V (power)

## AD8519ARTZ-REEL7
designator U?
Single Channel Wide Bandwidth Operational Amplifier, 8 MHz BW, 2.9 V/us SR, Industrial, 5-pin SOT23 (RJ-5), Reel; Generic Part Number: AD8519; Manufacturer: Analog Devices; PartNumber: AD8519ARTZ-REEL7; Amplifiers Per Package: 1; Input Bias Current: 300nA; Input Offset Voltage: 600uV; Iq/Amp: 1.2mA; Small Signal Bandwidth: 8MHz; V Span Max: 12V; V Span Min: 2.7V; DatasheetVersion: Rev. D; PackageVersion: 121608-A; PackageReference: RJ-5; PackageDescription: 5-Pin Small Outline Transistor Package, Body 2.9 x 1.6 mm, Pitch 0.95 mm; Supplier 1: Digi-Key; Supplier Part Number 1: AD8519ARTZ-REEL7TR-ND; Supplier 2: Digi-Key; Supplier Part Number 2: AD8519ARTZ-REEL7CT-ND; Supplier 3: Digi-Key; Supplier Part Number 3: AD8519ARTZ-REEL7DKR-ND; Supplier 4: Farnell; Supplier Part Number 4: 2112568; Supplier 5: Newark; Supplier Part Number 5: 19M8911; Supplier 6: Newark; Supplier Part Number 6: 59K6794; Slew Rate: 2.9V/us; Mounting Technology: Surface Mount; Code_JEDEC: MO-178-AA; ComponentLink1Description: Manufacturer URL; ComponentLink1URL: http://www.analog.com/en/index.html; ComponentLink2Description: Datasheet; ComponentLink2URL: http://www.analog.com/static/imported-files/data_sheets/AD8519_8529.pdf; ComponentLink3Description: Package Specification; ComponentLink3URL: http://www.analog.com/static/imported-files/packages/PKG_PDF/SOT-23(RJ)/RJ_5.pdf
footprint ADI-RJ-5_N (SOT-23, 5-Leads, Body 2.9x1.6mm, Pitch 0.95mm, IPC Medium Density)
footprint ADI-RJ-5_L (SOT-23, 5-Leads, Body 2.9x1.6mm, Pitch 0.95mm, IPC High Density)
footprint ADI-RJ-5_M (SOT-23, 5-Leads, Body 2.9x1.6mm, Pitch 0.95mm, IPC Low Density)
pins: 1 OUT A (out), 2 -V (power), 3 +IN A (in), 4 -IN A (in), 5 +V (power)

## AD8519ARZ
designator U?
Single Channel Wide Bandwidth Operational Amplifier, 8 MHz BW, 2.9 V/us SR, Industrial, 8-pin SOIC (R-8), Tube; Generic Part Number: AD8519; Manufacturer: Analog Devices; PartNumber: AD8519ARZ; Amplifiers Per Package: 1; Input Bias Current: 300nA; Input Offset Voltage: 600uV; Iq/Amp: 1.2mA; Small Signal Bandwidth: 8MHz; V Span Max: 12V; V Span Min: 2.7V; DatasheetVersion: Rev. D; PackageVersion: 060506-A; PackageReference: R-8; PackageDescription: 8-Pin Standard Small Outline Package, Body 3.9 x 4.9 mm, Pitch 1.27 mm; Supplier 1: Digi-Key; Supplier Part Number 1: AD8519ARZ-ND; Supplier 2: Farnell; Supplier Part Number 2: 9603840; Supplier 3: Newark; Supplier Part Number 3: 19M8912; Slew Rate: 2.9V/us; Mounting Technology: Surface Mount; Code_JEDEC: MS-012-AA; ComponentLink1Description: Manufacturer URL; ComponentLink1URL: http://www.analog.com/en/index.html; ComponentLink2Description: Datasheet; ComponentLink2URL: http://www.analog.com/static/imported-files/data_sheets/AD8519_8529.pdf; ComponentLink3Description: Package Specification; ComponentLink3URL: http://www.analog.com/static/imported-files/packages/PKG_PDF/SOIC_Narrow%20(R)/R_8.pdf
footprint ADI-R-8_N (SOIC, 8-Leads, Body 4.9x3.9mm, Pitch 1.27mm, IPC Medium Density)
footprint ADI-R-8_L (SOIC, 8-Leads, Body 4.9x3.9mm, Pitch 1.27mm, IPC High Density)
footprint ADI-R-8_M (SOIC, 8-Leads, Body 4.9x3.9mm, Pitch 1.27mm, IPC Low Density)
part A pins: 2 -IN A (in), 3 +IN A (in), 4 -V (power), 6 OUT A (out), 7 +V (power)
part B pins: 1 NC, 5 NC, 8 NC

## AD8529ARMZ-REEL
designator U?
Double Channel Wide Bandwidth Operational Amplifier, 8 MHz BW, 2.9 V/us SR, Industrial, 8-pin SOP (RM-8), Reel; Generic Part Number: AD8529; Manufacturer: Analog Devices; PartNumber: AD8529ARMZ-REEL; Amplifiers Per Package: 2; Input Bias Current: 300nA; Input Offset Voltage: 600uV; Iq/Amp: 1.2mA; Small Signal Bandwidth: 8MHz; V Span Max: 12V; V Span Min: 2.7V; DatasheetVersion: Rev. D; PackageReference: RM-8; PackageDescription: 8-Pin Mini Small Outline Package, Body 3 x 3 mm, Pitch 0.65 mm; Supplier 1: Digi-Key; Supplier Part Number 1: AD8529ARMZ-REELTR-ND; Supplier 2: Digi-Key; Supplier Part Number 2: AD8529ARMZ-REELCT-ND; Supplier 3: Digi-Key; Supplier Part Number 3: AD8529ARMZ-REELDKR-ND; Supplier 4: Newark; Supplier Part Number 4: 59K6806; Slew Rate: 2.9V/us; Mounting Technology: Surface Mount; Code_JEDEC: MO-187-AA; ComponentLink1Description: Manufacturer URL; ComponentLink1URL: http://www.analog.com/en/index.html; ComponentLink2Description: Datasheet; ComponentLink2URL: http://www.analog.com/static/imported-files/data_sheets/AD8519_8529.pdf; ComponentLink3Description: Package Specification; ComponentLink3URL: http://www.analog.com/static/imported-files/packages/PKG_PDF/MSOP%28RM%29/RM_8.pdf
footprint ADI-RM-8_N (SOP, 8-Leads, Body 3x3mm, Pitch 0.65mm, IPC Medium Density)
footprint ADI-RM-8_L (SOP, 8-Leads, Body 3x3mm, Pitch 0.65mm, IPC High Density)
footprint ADI-RM-8_M (SOP, 8-Leads, Body 3x3mm, Pitch 0.65mm, IPC Low Density)
pins on every part: 4 -V (power), 8 +V (power)
part A pins: 1 OUT A (out), 2 -IN A (in), 3 +IN A (in)
part B pins: 5 +IN B (in), 6 -IN B (in), 7 OUT B (out)

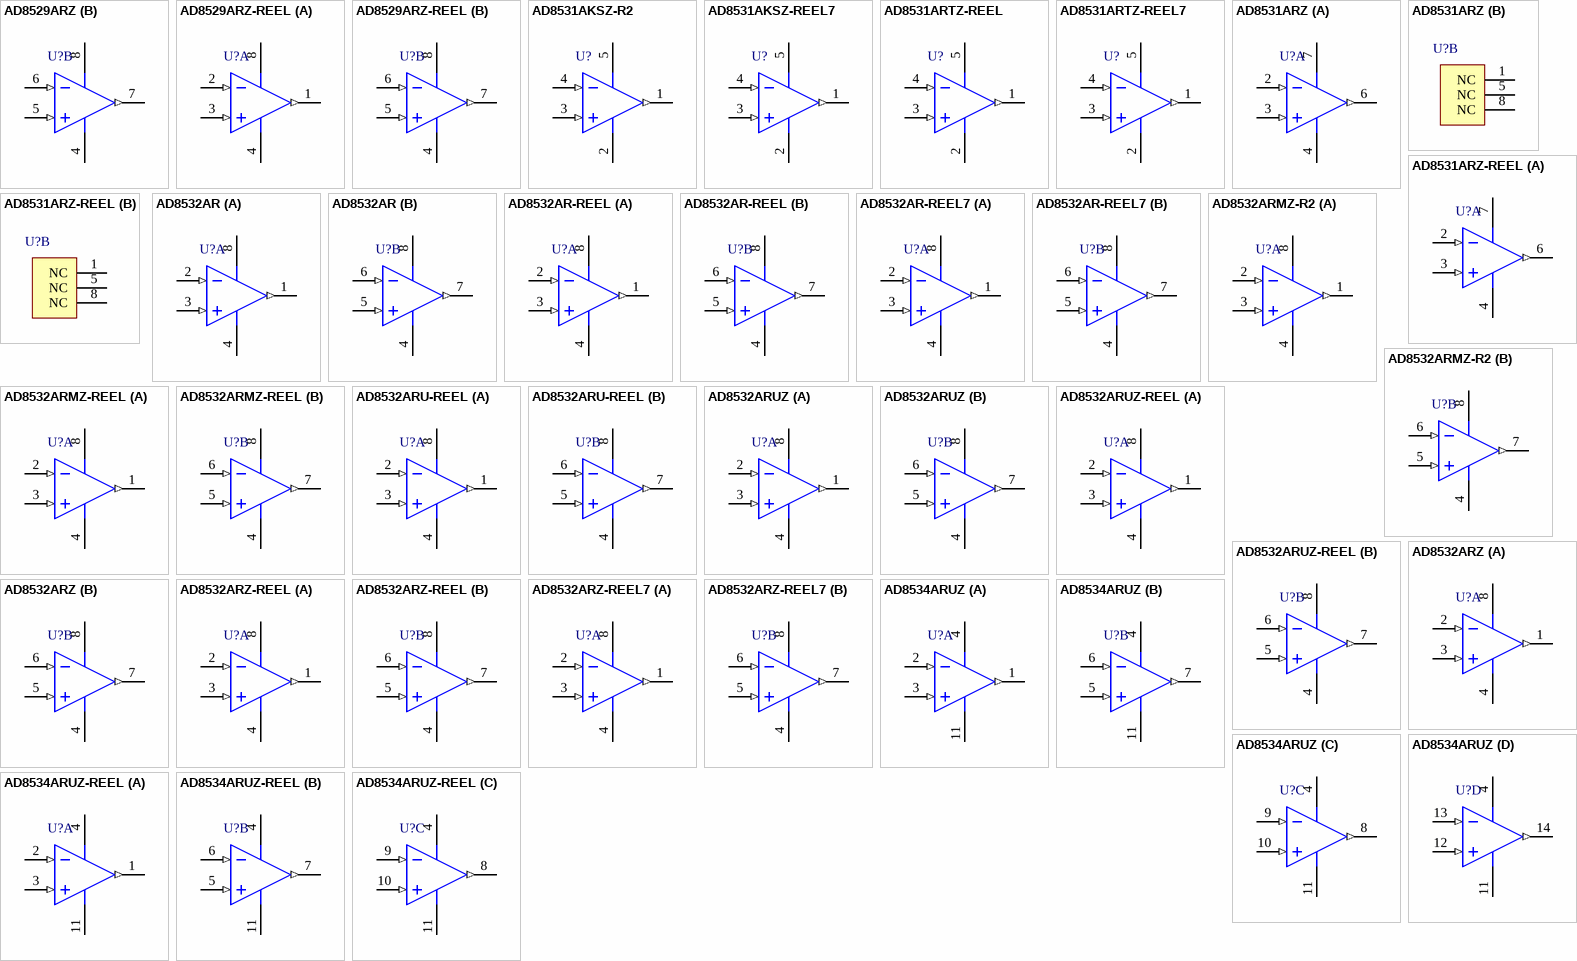
[diagram p40: symbols AD8529ARZ to AD8534ARUZ-REEL]

## AD8529ARZ
designator U?
Double Channel Wide Bandwidth Operational Amplifier, 8 MHz BW, 2.9 V/us SR, Industrial, 8-pin SOIC (R-8), Tube; Generic Part Number: AD8529; Manufacturer: Analog Devices; PartNumber: AD8529ARZ; Amplifiers Per Package: 2; Input Bias Current: 300nA; Input Offset Voltage: 600uV; Iq/Amp: 1.2mA; Small Signal Bandwidth: 8MHz; V Span Max: 12V; V Span Min: 2.7V; DatasheetVersion: Rev. D; PackageVersion: 060506-A; PackageReference: R-8; PackageDescription: 8-Pin Standard Small Outline Package, Body 3.9 x 4.9 mm, Pitch 1.27 mm; Supplier 1: Digi-Key; Supplier Part Number 1: AD8529ARZ-ND; Slew Rate: 2.9V/us; Mounting Technology: Surface Mount; Code_JEDEC: MS-012-AA; ComponentLink1Description: Manufacturer URL; ComponentLink1URL: http://www.analog.com/en/index.html; ComponentLink2Description: Datasheet; ComponentLink2URL: http://www.analog.com/static/imported-files/data_sheets/AD8519_8529.pdf; ComponentLink3Description: Package Specification; ComponentLink3URL: http://www.analog.com/static/imported-files/packages/PKG_PDF/SOIC_Narrow%20(R)/R_8.pdf
footprint ADI-R-8_N (SOIC, 8-Leads, Body 4.9x3.9mm, Pitch 1.27mm, IPC Medium Density)
footprint ADI-R-8_L (SOIC, 8-Leads, Body 4.9x3.9mm, Pitch 1.27mm, IPC High Density)
footprint ADI-R-8_M (SOIC, 8-Leads, Body 4.9x3.9mm, Pitch 1.27mm, IPC Low Density)
pins on every part: 4 -V (power), 8 +V (power)
part A pins: 1 OUT A (out), 2 -IN A (in), 3 +IN A (in)
part B pins: 5 +IN B (in), 6 -IN B (in), 7 OUT B (out)

## AD8529ARZ-REEL
designator U?
Double Channel Wide Bandwidth Operational Amplifier, 8 MHz BW, 2.9 V/us SR, Industrial, 8-pin SOIC (R-8), Reel; Generic Part Number: AD8529; Manufacturer: Analog Devices; PartNumber: AD8529ARZ-REEL; Amplifiers Per Package: 2; Input Bias Current: 300nA; Input Offset Voltage: 600uV; Iq/Amp: 1.2mA; Small Signal Bandwidth: 8MHz; V Span Max: 12V; V Span Min: 2.7V; DatasheetVersion: Rev. D; PackageVersion: 060506-A; PackageReference: R-8; PackageDescription: 8-Pin Standard Small Outline Package, Body 3.9 x 4.9 mm, Pitch 1.27 mm; Supplier 1: Digi-Key; Supplier Part Number 1: AD8529ARZ-REEL-ND; Supplier 2: Newark; Supplier Part Number 2: 59K6808; Slew Rate: 2.9V/us; Mounting Technology: Surface Mount; Code_JEDEC: MS-012-AA; ComponentLink1Description: Manufacturer URL; ComponentLink1URL: http://www.analog.com/en/index.html; ComponentLink2Description: Datasheet; ComponentLink2URL: http://www.analog.com/static/imported-files/data_sheets/AD8519_8529.pdf; ComponentLink3Description: Package Specification; ComponentLink3URL: http://www.analog.com/static/imported-files/packages/PKG_PDF/SOIC_Narrow%20(R)/R_8.pdf
footprint ADI-R-8_N (SOIC, 8-Leads, Body 4.9x3.9mm, Pitch 1.27mm, IPC Medium Density)
footprint ADI-R-8_L (SOIC, 8-Leads, Body 4.9x3.9mm, Pitch 1.27mm, IPC High Density)
footprint ADI-R-8_M (SOIC, 8-Leads, Body 4.9x3.9mm, Pitch 1.27mm, IPC Low Density)
pins on every part: 4 -V (power), 8 +V (power)
part A pins: 1 OUT A (out), 2 -IN A (in), 3 +IN A (in)
part B pins: 5 +IN B (in), 6 -IN B (in), 7 OUT B (out)

## AD8531AKSZ-R2
designator U?
Single Channel RRIO Operational Amplifier, 3 MHz BW, 5 V/us SR, Industrial, 5-pin SOT23 (KS-5), Reel; Generic Part Number: AD8531; Manufacturer: Analog Devices; PartNumber: AD8531AKSZ-R2; Amplifiers Per Package: 1; Input Bias Current: 5pA; Input Offset Voltage: 25mV; Iq/Amp: 1.25mA; Slew Rate: 5V/us; Small Signal Bandwidth: 3MHz; V Span Max: 6V; V Span Min: 2.7V; DatasheetVersion: Rev. F; PackageVersion: 072809-A; PackageReference: KS-5; PackageDescription: 5-Pin Thin Shrink Small Outline Transistor Package, Body 2 x 1.25 mm, Pitch 0.65 mm; Supplier 1: Digi-Key; Supplier Part Number 1: AD8531AKSZ-R2-ND; Supplier 2: Newark; Supplier Part Number 2: 59K6810; Packing: Reel; Mounting Technology: Surface Mount; Code_JEDEC: MO-203-AA; ComponentLink1Description: Manufacturer URL; ComponentLink1URL: http://www.analog.com/en/index.html; ComponentLink2Description: Datasheet; ComponentLink2URL: http://www.analog.com/static/imported-files/data_sheets/AD8531_8532_8534.pdf; ComponentLink3Description: Package Specification; ComponentLink3URL: http://www.analog.com/static/imported-files/packages/PKG_PDF/SC70(KS)/KS_5.pdf
footprint ADI-KS-5_N (SOT23, 5-Leads, Body 2x1.25mm, Pitch 0.65mm, IPC Medium Density)
footprint ADI-KS-5_L (SOT23, 5-Leads, Body 2x1.25mm, Pitch 0.65mm, IPC High Density)
footprint ADI-KS-5_M (SOT23, 5-Leads, Body 2x1.25mm, Pitch 0.65mm, IPC Low Density)
pins: 1 OUT A (out), 2 -V (power), 3 +IN A (in), 4 -IN A (in), 5 +V (power)

## AD8531AKSZ-REEL7
designator U?
Single Channel RRIO Operational Amplifier, 3 MHz BW, 5 V/us SR, Industrial, 5-pin SOT23 (KS-5), Reel; Generic Part Number: AD8531; Manufacturer: Analog Devices; PartNumber: AD8531AKSZ-REEL7; Amplifiers Per Package: 1; Input Bias Current: 5pA; Input Offset Voltage: 25mV; Iq/Amp: 1.25mA; Slew Rate: 5V/us; Small Signal Bandwidth: 3MHz; V Span Max: 6V; V Span Min: 2.7V; DatasheetVersion: Rev. F; PackageVersion: 072809-A; PackageReference: KS-5; PackageDescription: 5-Pin Thin Shrink Small Outline Transistor Package, Body 2 x 1.25 mm, Pitch 0.65 mm; Supplier 1: Digi-Key; Supplier Part Number 1: AD8531AKSZ-REEL7TR-ND; Supplier 2: Digi-Key; Supplier Part Number 2: AD8531AKSZ-REEL7CT-ND; Supplier 3: Digi-Key; Supplier Part Number 3: AD8531AKSZ-REEL7DKR-ND; Supplier 4: Newark; Supplier Part Number 4: 59K6809; Packing: Reel; Mounting Technology: Surface Mount; Code_JEDEC: MO-203-AA; ComponentLink1Description: Manufacturer URL; ComponentLink1URL: http://www.analog.com/en/index.html; ComponentLink2Description: Datasheet; ComponentLink2URL: http://www.analog.com/static/imported-files/data_sheets/AD8531_8532_8534.pdf; ComponentLink3Description: Package Specification; ComponentLink3URL: http://www.analog.com/static/imported-files/packages/PKG_PDF/SC70(KS)/KS_5.pdf
footprint ADI-KS-5_N (SOT23, 5-Leads, Body 2x1.25mm, Pitch 0.65mm, IPC Medium Density)
footprint ADI-KS-5_L (SOT23, 5-Leads, Body 2x1.25mm, Pitch 0.65mm, IPC High Density)
footprint ADI-KS-5_M (SOT23, 5-Leads, Body 2x1.25mm, Pitch 0.65mm, IPC Low Density)
pins: 1 OUT A (out), 2 -V (power), 3 +IN A (in), 4 -IN A (in), 5 +V (power)

## AD8531ARTZ-REEL
designator U?
Single Channel RRIO Operational Amplifier, 3 MHz BW, 5 V/us SR, Industrial, 5-pin SOT23 (RJ-5), Reel; Generic Part Number: AD8531; Manufacturer: Analog Devices; PartNumber: AD8531ARTZ-REEL; Amplifiers Per Package: 1; Input Bias Current: 5pA; Input Offset Voltage: 25mV; Iq/Amp: 1.25mA; Slew Rate: 5V/us; Small Signal Bandwidth: 3MHz; V Span Max: 6V; V Span Min: 2.7V; DatasheetVersion: Rev. F; PackageVersion: 121608-A; PackageReference: RJ-5; PackageDescription: 5-Pin Small Outline Transistor Package, Body 2.9 x 1.6 mm, Pitch 0.95 mm; Supplier 1: Digi-Key; Supplier Part Number 1: AD8531ARTZ-REEL-ND; Packing: Reel; Mounting Technology: Surface Mount; Code_JEDEC: MO-178-AA; ComponentLink1Description: Manufacturer URL; ComponentLink1URL: http://www.analog.com/en/index.html; ComponentLink2Description: Datasheet; ComponentLink2URL: http://www.analog.com/static/imported-files/data_sheets/AD8531_8532_8534.pdf; ComponentLink3Description: Package Specification; ComponentLink3URL: http://www.analog.com/static/imported-files/packages/PKG_PDF/SOT-23(RJ)/RJ_5.pdf
footprint ADI-RJ-5_N (SOT-23, 5-Leads, Body 2.9x1.6mm, Pitch 0.95mm, IPC Medium Density)
footprint ADI-RJ-5_L (SOT-23, 5-Leads, Body 2.9x1.6mm, Pitch 0.95mm, IPC High Density)
footprint ADI-RJ-5_M (SOT-23, 5-Leads, Body 2.9x1.6mm, Pitch 0.95mm, IPC Low Density)
pins: 1 OUT A (out), 2 -V (power), 3 +IN A (in), 4 -IN A (in), 5 +V (power)

## AD8531ARTZ-REEL7
designator U?
Single Channel RRIO Operational Amplifier, 3 MHz BW, 5 V/us SR, Industrial, 5-pin SOT23 (RJ-5), Reel; Generic Part Number: AD8531; Manufacturer: Analog Devices; PartNumber: AD8531ARTZ-REEL7; Amplifiers Per Package: 1; Input Bias Current: 5pA; Input Offset Voltage: 25mV; Iq/Amp: 1.25mA; Slew Rate: 5V/us; Small Signal Bandwidth: 3MHz; V Span Max: 6V; V Span Min: 2.7V; DatasheetVersion: Rev. F; PackageVersion: 121608-A; PackageReference: RJ-5; PackageDescription: 5-Pin Small Outline Transistor Package, Body 2.9 x 1.6 mm, Pitch 0.95 mm; Supplier 1: Digi-Key; Supplier Part Number 1: AD8531ARTZ-REEL7TR-ND; Supplier 2: Digi-Key; Supplier Part Number 2: AD8531ARTZ-REEL7CT-ND; Supplier 3: Digi-Key; Supplier Part Number 3: AD8531ARTZ-REEL7DKR-ND; Supplier 4: Farnell; Supplier Part Number 4: 1838868; Supplier 5: Farnell; Supplier Part Number 5: 1838868RL; Supplier 6: Newark; Supplier Part Number 6: 19M8913; Supplier 7: Newark; Supplier Part Number 7: 59K6812; Packing: Reel; Mounting Technology: Surface Mount; Code_JEDEC: MO-178-AA; ComponentLink1Description: Manufacturer URL; ComponentLink1URL: http://www.analog.com/en/index.html; ComponentLink2Description: Datasheet; ComponentLink2URL: http://www.analog.com/static/imported-files/data_sheets/AD8531_8532_8534.pdf; ComponentLink3Description: Package Specification; ComponentLink3URL: http://www.analog.com/static/imported-files/packages/PKG_PDF/SOT-23(RJ)/RJ_5.pdf
footprint ADI-RJ-5_N (SOT-23, 5-Leads, Body 2.9x1.6mm, Pitch 0.95mm, IPC Medium Density)
footprint ADI-RJ-5_L (SOT-23, 5-Leads, Body 2.9x1.6mm, Pitch 0.95mm, IPC High Density)
footprint ADI-RJ-5_M (SOT-23, 5-Leads, Body 2.9x1.6mm, Pitch 0.95mm, IPC Low Density)
pins: 1 OUT A (out), 2 -V (power), 3 +IN A (in), 4 -IN A (in), 5 +V (power)

## AD8531ARZ
designator U?
Single Channel RRIO Operational Amplifier, 3 MHz BW, 5 V/us SR, Industrial, 8-pin SOIC (R-8), Tube; Generic Part Number: AD8531; Manufacturer: Analog Devices; PartNumber: AD8531ARZ; Amplifiers Per Package: 1; Input Bias Current: 5pA; Input Offset Voltage: 25mV; Iq/Amp: 1.25mA; Slew Rate: 5V/us; Small Signal Bandwidth: 3MHz; V Span Max: 6V; V Span Min: 2.7V; DatasheetVersion: Rev. F; PackageVersion: 060506-A; PackageReference: R-8; PackageDescription: 8-Pin Standard Small Outline Package, Body 3.9 x 4.9 mm, Pitch 1.27 mm; Supplier 1: Digi-Key; Supplier Part Number 1: AD8531ARZ-ND; Supplier 2: Farnell; Supplier Part Number 2: 9605479; Supplier 3: Newark; Supplier Part Number 3: 19M0961; Packing: Tube; Mounting Technology: Surface Mount; Code_JEDEC: MS-012-AA; ComponentLink1Description: Manufacturer URL; ComponentLink1URL: http://www.analog.com/en/index.html; ComponentLink2Description: Datasheet; ComponentLink2URL: http://www.analog.com/static/imported-files/data_sheets/AD8531_8532_8534.pdf; ComponentLink3Description: Package Specification; ComponentLink3URL: http://www.analog.com/static/imported-files/packages/PKG_PDF/SOIC_Narrow%20(R)/R_8.pdf
footprint ADI-R-8_N (SOIC, 8-Leads, Body 4.9x3.9mm, Pitch 1.27mm, IPC Medium Density)
footprint ADI-R-8_L (SOIC, 8-Leads, Body 4.9x3.9mm, Pitch 1.27mm, IPC High Density)
footprint ADI-R-8_M (SOIC, 8-Leads, Body 4.9x3.9mm, Pitch 1.27mm, IPC Low Density)
part A pins: 2 -IN A (in), 3 +IN A (in), 4 -V (power), 6 OUT A (out), 7 +V (power)
part B pins: 1 NC, 5 NC, 8 NC

## AD8531ARZ-REEL
designator U?
Single Channel RRIO Operational Amplifier, 3 MHz BW, 5 V/us SR, Industrial, 8-pin SOIC (R-8), Reel; Generic Part Number: AD8531; Manufacturer: Analog Devices; PartNumber: AD8531ARZ-REEL; Amplifiers Per Package: 1; Input Bias Current: 5pA; Input Offset Voltage: 25mV; Iq/Amp: 1.25mA; Slew Rate: 5V/us; Small Signal Bandwidth: 3MHz; V Span Max: 6V; V Span Min: 2.7V; DatasheetVersion: Rev. F; PackageVersion: 060506-A; PackageReference: R-8; PackageDescription: 8-Pin Standard Small Outline Package, Body 3.9 x 4.9 mm, Pitch 1.27 mm; Supplier 1: Digi-Key; Supplier Part Number 1: AD8531ARZ-REELTR-ND; Supplier 2: Digi-Key; Supplier Part Number 2: AD8531ARZ-REELCT-ND; Supplier 3: Digi-Key; Supplier Part Number 3: AD8531ARZ-REELDKR-ND; Packing: Reel; Mounting Technology: Surface Mount; Code_JEDEC: MS-012-AA; ComponentLink1Description: Manufacturer URL; ComponentLink1URL: http://www.analog.com/en/index.html; ComponentLink2Description: Datasheet; ComponentLink2URL: http://www.analog.com/static/imported-files/data_sheets/AD8531_8532_8534.pdf; ComponentLink3Description: Package Specification; ComponentLink3URL: http://www.analog.com/static/imported-files/packages/PKG_PDF/SOIC_Narrow%20(R)/R_8.pdf
footprint ADI-R-8_N (SOIC, 8-Leads, Body 4.9x3.9mm, Pitch 1.27mm, IPC Medium Density)
footprint ADI-R-8_L (SOIC, 8-Leads, Body 4.9x3.9mm, Pitch 1.27mm, IPC High Density)
footprint ADI-R-8_M (SOIC, 8-Leads, Body 4.9x3.9mm, Pitch 1.27mm, IPC Low Density)
part A pins: 2 -IN A (in), 3 +IN A (in), 4 -V (power), 6 OUT A (out), 7 +V (power)
part B pins: 1 NC, 5 NC, 8 NC

## AD8532AR
designator U?
Double Channel Rail-to-Rail Operational Amplifier, 3 MHz BW, 5 V/us SR, Industrial, 8-pin SOIC (R-8), Tube; Generic Part Number: AD8532; Manufacturer: Analog Devices; PartNumber: AD8532AR; Amplifiers Per Package: 2; Input Bias Current: 5pA; Input Offset Voltage: 25mV; Iq/Amp: 1.25mA; Slew Rate: 5V/us; Small Signal Bandwidth: 3MHz; V Span Max: 6V; V Span Min: 3V; DatasheetVersion: Rev. F; PackageVersion: 060506-A; PackageReference: R-8; PackageDescription: 8-Pin Standard Small Outline Package, Body 3.9 x 4.9 mm, Pitch 1.27 mm; Supplier 1: Digi-Key; Supplier Part Number 1: AD8532AR-ND; Mounting Technology: Surface Mount; Code_JEDEC: MS-012-AA; ComponentLink1Description: Manufacturer URL; ComponentLink1URL: http://www.analog.com/en/index.html; ComponentLink2Description: Datasheet; ComponentLink2URL: http://www.analog.com/static/imported-files/data_sheets/AD8531_8532_8534.pdf; ComponentLink3Description: Package Specification; ComponentLink3URL: http://www.analog.com/static/imported-files/packages/PKG_PDF/SOIC_Narrow%20(R)/R_8.pdf
footprint ADI-R-8_N (SOIC, 8-Leads, Body 4.9x3.9mm, Pitch 1.27mm, IPC Medium Density)
footprint ADI-R-8_L (SOIC, 8-Leads, Body 4.9x3.9mm, Pitch 1.27mm, IPC High Density)
footprint ADI-R-8_M (SOIC, 8-Leads, Body 4.9x3.9mm, Pitch 1.27mm, IPC Low Density)
pins on every part: 4 -V (power), 8 +V (power)
part A pins: 1 OUT A (out), 2 -IN A (in), 3 +IN A (in)
part B pins: 5 +IN B (in), 6 -IN B (in), 7 OUT B (out)